# Altium schematic symbol library 8.Resonarors.SchLib: 14 symbols
Pins are listed as number, name and electrical type; pins without a type are passive.

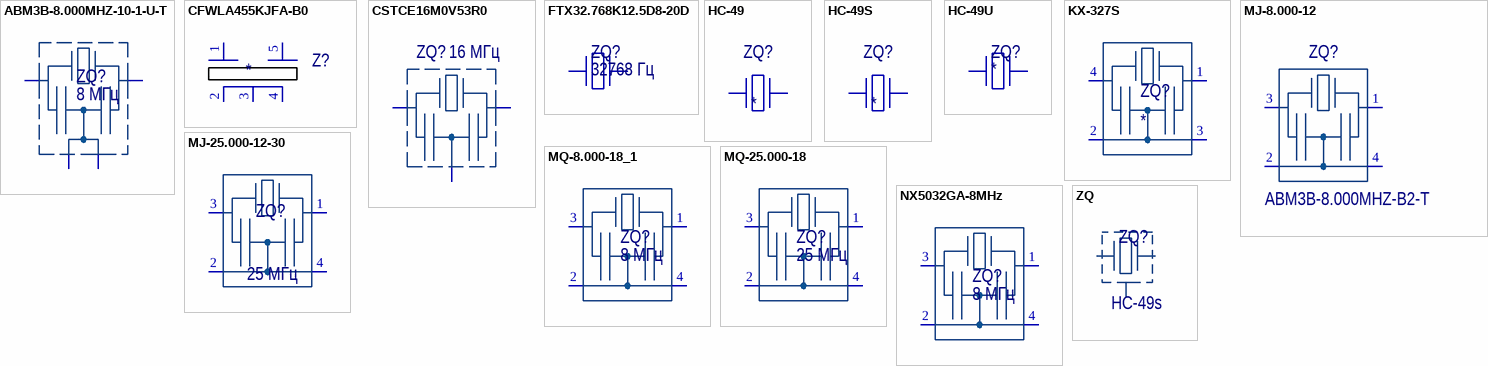
[diagram p0: symbols ABM3B-8.000MHZ-10-1-U-T to ZQ]

## ABM3B-8.000MHZ-10-1-U-T
designator ZQ?, comment 8 МГц
footprint MQ CRYSTAL
pins: 1, 2, 3, 4

## CFWLA455KJFA-B0
designator Z?
footprint CFWLA_ilter_muRata
pins: 1, 2, 3, 4, 5

## CSTCE16M0V53R0
designator ZQ?, comment 16 МГц
RESONATOR, CERAMIC, 16MHZ, SMD
footprint CSTCE
pins: 1, 2, 3

## FTX32.768K12.5D8-20D
designator ZQ?, comment 32768 Гц
footprint DT-38T
pins: 1, 2

## HC-49
designator ZQ?
footprint HC-49
pins: 1, 2

## HC-49S
designator ZQ?
footprint HC-49S
pins: 1, 2

## HC-49U
designator ZQ?
footprint HC-49U
pins: 1, 2

## KX-327S
designator ZQ?
Кварцевый резонатор 32.768 кГц, 20 ppm
footprint KX-327S
pins: 1, 2, 3, 4

## MJ-8.000-12
designator ZQ?, comment ABM3B-8.000MHZ-B2-T
footprint MJ CRYSTAL
pins: 1, 2, 3, 4

## MJ-25.000-12-30
designator ZQ?, comment 25 МГц
HelpURL: http://www.farnell.com/datasheets/75382.pdf?_ga=2.113899726.879416790.1522496135-348542868.1502359300
footprint MJ CRYSTAL
pins: 1, 2, 3, 4

## MQ-8.000-18_1
designator ZQ?, comment 8 МГц
footprint MQ CRYSTAL
pins: 1, 2, 3, 4

## MQ-25.000-18
designator ZQ?, comment 25 МГц
footprint MQ CRYSTAL
pins: 1, 2, 3, 4

## NX5032GA-8MHz
designator ZQ?, comment 8 МГц
footprint MJ CRYSTAL
pins: 1, 2, 3, 4

## ZQ
designator ZQ?, comment HC-49s
footprint HC-49
pins: 1, 2, 3